# Altium schematic symbol library 8mm_Inductor_THT.SchLib: 1 symbol
Pins are listed as number, name and electrical type; pins without a type are passive.

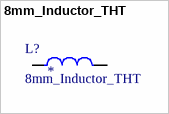
[diagram p0: symbol 8mm_Inductor_THT]

## 8mm_Inductor_THT
designator L?
Inductor_THT_8mm_Inductor_THT; LCSC: *
footprint 8mm_Inductor_THT
pins: 1, 2